# EAGLE library part H0022NL (library Trans)
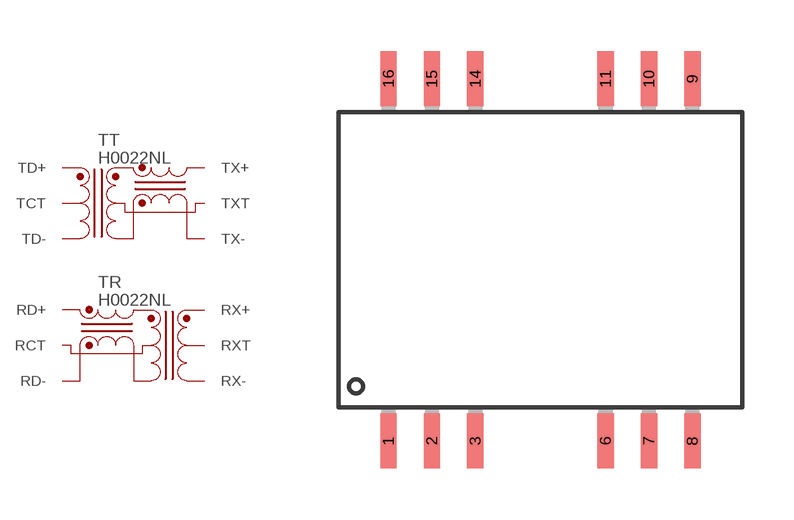
[diagram p0: symbol with the pads of H0022NL; footprint H0022NL]

Designator prefix T; gates T=LAN-TRANSMIT R=LAN-RECEIVE

## H0022NL  [H0022NL]
1  T:TD+  pas
2  T:TD-  pas
3  T:TCT  pas
6  R:RCT  pas
7  R:RD+  pas
8  R:RD-  pas
9  R:RX-  pas
10  R:RX+  pas
11  R:RXT  pas
14  T:TXT  pas
15  T:TX-  pas
16  T:TX+  pas

## Footprint H0022NL (pad centres in mm)
smd 0.48 x 1.6: 1 -4.445,-5.3; 2 -3.175,-5.3; 3 -1.905,-5.3; 6 1.905,-5.3; 7 3.175,-5.3; 8 4.445,-5.3; 9 4.445,5.3; 10 3.175,5.3; 11 1.905,5.3; 14 -1.905,5.3; 15 -3.175,5.3; 16 -4.445,5.3